# Altium footprint library Daxxn_Thermal.PcbLib: 2 footprints
Each footprint in its own frame and in the unit in brackets; x right, y up, seen from the top. Pads: shape width x height; smd on the part's side, far side on the other; paste and mask are expansions set on the pad; w line width, h text height; cw(c..) or ccw(c..) is an arc to the next point about the centre after c.
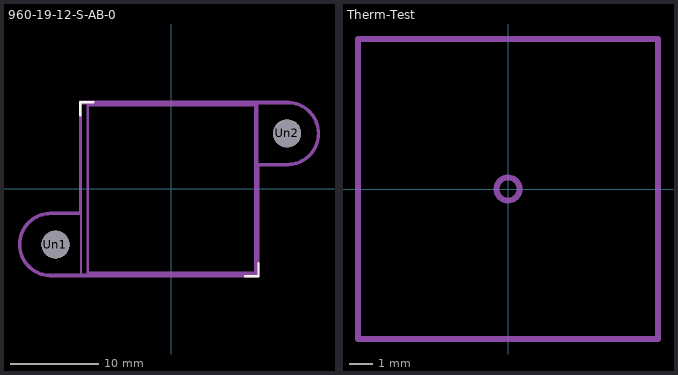
[diagram p0: the footprints below, top view; thin cyan lines are the x and y axes]

## 960-19-12-S-AB-0 [mm]
pads (2):
  round 3.18 hole 3.18: Un1(-13.16,-6.32) Un2(13.16,6.32)
F.SilkS:
  lines w0.254: -10.35,8.35 -10.35,9.85 -8.85,9.85 ; 8.4,-9.9 9.9,-9.9 9.9,-8.4
Dwgs.User:
  lines w0.254: -9.5,-9.5 -9.5,9.5 9.5,9.5 9.5,-9.5 -9.5,-9.5
  text "19mm X 19mm" at -1.701,8.825 h0.3
F.CrtYd:
  lines w0.254: -13.827,-2.701 -10.35,-2.7 -10.35,9.9 13.297,9.899 cw(c13.173,6.299) 13.3,2.7 9.9,2.7 9.9,-9.9 -13.824,-9.899 cw(c-13.7,-6.3) -13.827,-2.701
F.Fab:
  lines w0.254: -13.65,-9.75 -10.25,-9.75 ; -13.649,-9.75 cw(c-13.7,-6.3) -13.651,-2.85 -10.251,-2.85 ; 9.751,2.85 13.151,2.85 ccw(c13.2,6.3) 13.149,9.75 9.75,9.75 ; -10.25,-9.75 -10.25,9.75 9.75,9.75 ; -10.25,-9.75 9.75,-9.75 9.75,9.75
  text "'.Designator'" at -9.45,9.012 h0.2

## Therm-Test [mm]
Dwgs.User:
  lines w0.254: -6.5,-6.5 -6.5,6.5 6.5,6.5 6.5,-6.5 -6.5,-6.5
  text "OUTLINE" at -2.738,-2.65 h1
  text "SOC" at -1.45,0.85 h1
F.Fab:
  text "'.Designator'" at -24.797,7.41 h1
Cmts.User:
  circle w0.254: c0,0 r0.5